# Altium integrated library STM32.IntLib: 2 symbols
Pins are listed as number, name and electrical type; pins without a type are passive.

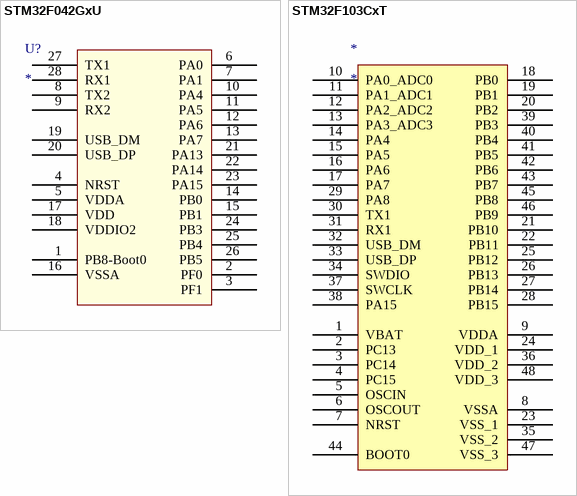
[diagram p0: symbols STM32F042GxU to STM32F103CxT]

## STM32F042GxU
designator U?
Imported; Manufacturer_Part_Number: stm32f042gxu; Vendor: STMicroelectronics; C: Copyright (C) 2016 Accelerated Designs. All rights reserved; Copyright: Copyright (C) 2016 Accelerated Designs. All rights reserved; Value: Value; Type: Type; RefDes: RefDes
footprint UFQFPN28-4x4mm
footprint UFQFPN28-4x4mm-L
footprint UFQFPN28-4x4mm-M
pins: 1 PB8-Boot0, 2 PF0, 3 PF1, 4 NRST, 5 VDDA (power), 6 PA0, 7 PA1, 8 TX2, 9 RX2, 10 PA4, 11 PA5, 12 PA6, 13 PA7, 14 PB0, 15 PB1, 16 VSSA (power), 17 VDD (power), 18 VDDIO2 (power), 19 USB_DM, 20 USB_DP, 21 PA13, 22 PA14, 23 PA15, 24 PB3, 25 PB4, 26 PB5, 27 TX1, 28 RX1

## STM32F103CxT
designator *
footprint LQFP48
pins: 1 VBAT, 2 PC13, 3 PC14, 4 PC15, 5 OSCIN, 6 OSCOUT, 7 NRST, 8 VSSA, 9 VDDA, 10 PA0_ADC0, 11 PA1_ADC1, 12 PA2_ADC2, 13 PA3_ADC3, 14 PA4, 15 PA5, 16 PA6, 17 PA7, 18 PB0, 19 PB1, 20 PB2, 21 PB10, 22 PB11, 23 VSS_1, 24 VDD_1, 25 PB12, 26 PB13, 27 PB14, 28 PB15, 29 PA8, 30 TX1, 31 RX1, 32 USB_DM, 33 USB_DP, 34 SWDIO, 35 VSS_2, 36 VDD_2, 37 SWCLK, 38 PA15, 39 PB3, 40 PB4, 41 PB5, 42 PB6, 43 PB7, 44 BOOT0, 45 PB8, 46 PB9, 47 VSS_3, 48 VDD_3